# EAGLE library part SSM6N55NU (library Railstars)
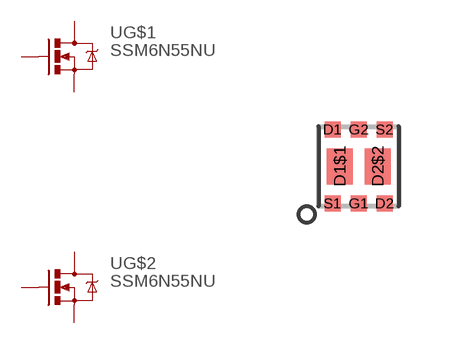
[diagram p38: symbol with the pads of UDFN6; footprint UDFN6]

Designator prefix -; gates G$1=MOSFET-NCHANNEL G$2=MOSFET-NCHANNEL

## SSM6N55NU  [UDFN6]
D1  G$1:D  pas
D1$1  G$1:D  pas
D2  G$2:D  pas
D2$2  G$2:D  pas
G1  G$1:G  pas
G2  G$2:G  pas
S1  G$1:S  pas
S2  G$2:S  pas

## Footprint UDFN6 (pad centres in mm)
smd 0.4 x 0.4: D1 -0.65,0.925; D2 0.65,-0.925; G1 0,-0.925; G2 0,0.925; S1 -0.65,-0.925; S2 0.65,0.925
smd 0.65 x 0.9: D1$1 -0.475,0; D2$2 0.475,0